# Altium schematic symbol library MCU_Trident.SchLib: 1 symbol
Pins are listed as number, name and electrical type; pins without a type are passive.

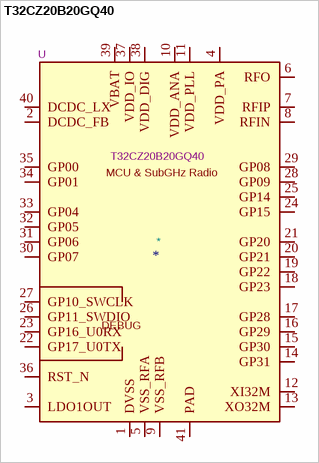
[diagram p0: symbol T32CZ20B20GQ40]

## T32CZ20B20GQ40
designator *  value T32CZ20B20GQ40  Reference: U
ARM,M33,SubGHz Radio,+20dBm,1MB,Flash,288KRAM,Z-Wave,QFN-40; ki_keywords: Trident IoT Z-Wave ARM MCU CM33 Radio 900MHz SoC CPU; ki_fp_filters: *QFN*5x5mm*P0.4mm*EP3.3*; Footprint: Package_DFN_QFN:VQFN-40-1EP_5x5mm_P0.4mm_EP3.3x3.3mm; Datasheet: https://tridentiot.com/wp-content/uploads/2024/11/DS-ZW-0001-01-T32CZ20-Datasheet.pdf; Description_: ARM,M33,SubGHz Radio,+20dBm,1MB,Flash,288KRAM,Z-Wave,QFN-40
pins: 1 DVSS, 2 DCDC_FB, 3 LDO1OUT, 4 VDD_PA, 5 VSS_RFA, 6 RFO, 7 RFIP, 8 RFIN, 9 VSS_RFB, 10 VDD_ANA, 11 VDD_PLL, 12 XI32M, 13 XO32M, 14 GP31, 15 GP30, 16 GP29, 17 GP28, 18 GP23, 19 GP22, 20 GP21, 21 GP20, 22 GP17_U0TX, 23 GP16_U0RX, 24 GP15, 25 GP14, 26 GP11_SWDIO, 27 GP10_SWCLK, 28 GP09, 29 GP08, 30 GP07, 31 GP06, 32 GP05, 33 GP04, 34 GP01, 35 GP00, 36 RST_N, 37 VDD_IO, 38 VDD_DIG, 39 VBAT, 40 DCDC_LX, 41 PAD
text: MCU & SubGHz Radio; DEBUG